# Altium footprint library Crystal Footprints.PcbLib: 5 footprints
Each footprint in its own frame and in the unit in brackets; x right, y up, seen from the top. Pads: shape width x height; smd on the part's side, far side on the other; paste and mask are expansions set on the pad; w line width, h text height; cw(c..) or ccw(c..) is an arc to the next point about the centre after c.
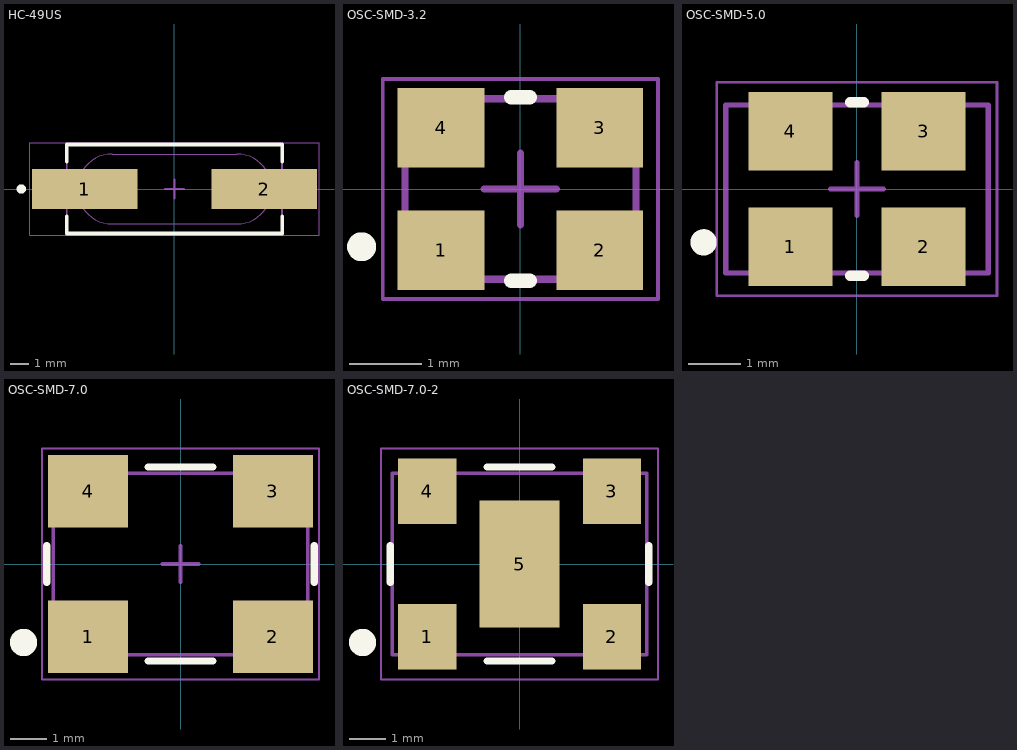
[diagram p0: the footprints below, top view; thin cyan lines are the x and y axes]

## HC-49US [mm] "SMD, 2-Leads, Body 11.4x4.7mm, Height 3.3mm"
height 3.3
pads (2):
  rect 5.6x2.1 smd: 1(-4.75,0) 2(4.75,0)
Top Overlay:
  circle w0.25: c-8.1,0 r0.125
  lines w0.2: -5.7,-1.45 -5.7,-2.35 5.7,-2.35 5.7,-1.45 ; -5.7,1.45 -5.7,2.35 5.7,2.35 5.7,1.45
Mechanical 13:
  lines w0.05: -3.3,-1.85 cw(c-3.3,0) -3.3,1.85 3.3,1.85 cw(c3.3,0) 3.3,-1.85 -3.3,-1.85
  lines w0.1: -5.7,-2.35 5.7,-2.35 5.7,2.35 -5.7,2.35 -5.7,-2.35
Mechanical 15:
  lines w0.05: -7.65,-2.45 -7.65,2.45 7.65,2.45 7.65,-2.45 -7.65,-2.45
  lines w0.1: -0.5,0 0.5,0 ; 0,-0.5 0,0.5
3D body: height 0.5, standoff 0, extent -5.699,-2.349 5.699,2.349
3D body: height 3.3, standoff 0.5, extent -5.151,-1.851 5.151,1.851

## OSC-SMD-3.2 [mm] "SMD, 4-Leads, Body 3.2x2.5mm, Pitch 2.1mm"
height 1.2
pads (4):
  rect 1.2x1.1 smd: 1(-1.1,-0.85) 2(1.1,-0.85) 3(1.1,0.85) 4(-1.1,0.85)
Top Overlay:
  circle w0.3: c-2.2,-0.8 r0.05
  lines w0.2: -0.127,-1.27 0.127,-1.27 ; -0.127,1.27 0.127,1.27
Mechanical 13:
  lines w0.1: -1.6,-1.25 -1.6,1.25 1.6,1.25 1.6,-1.25 -1.6,-1.25
Mechanical 15:
  lines w0.05: -1.905,-1.524 1.905,-1.524 1.905,1.524 -1.905,1.524 -1.905,-1.524
  lines w0.1: -0.5,0 0.5,0 ; 0,-0.5 0,0.5
3D body "ASE2.STEP": height 1.2, standoff 0, extent -1.6,-1.25 1.6,1.25

## OSC-SMD-5.0 [mm] "SMD, 4-Leads, Body 5x3.2mm"
height 1.1
pads (4):
  rect 1.6x1.5 smd: 1(-1.27,-1.1) 2(1.27,-1.1) 3(1.27,1.1) 4(-1.27,1.1)
Top Overlay:
  circle w0.25: c-2.921,-1.016 r0.125
  lines w0.2: -0.127,-1.651 0.127,-1.651 ; -0.127,1.651 0.127,1.651
Mechanical 13:
  lines w0.1: -2.5,-1.6 2.5,-1.6 2.5,1.6 -2.5,1.6 -2.5,-1.6
Mechanical 15:
  lines w0.05: -2.667,-2.032 -2.667,2.032 2.667,2.032 2.667,-2.032 -2.667,-2.032
  lines w0.1: -0.5,0 0.5,0 ; 0,-0.5 0,0.5
3D body "Oscillator ASF1.STEP": height 1.1, standoff 0, extent -2.5,-1.6 2.5,1.6

## OSC-SMD-7.0 [mm] "SMD, 4-Leads, Body 7x5mm"
height 1.1
pads (4):
  rect 2.2x2 smd: 1(-2.54,-2) 2(2.54,-2) 3(2.54,2) 4(-2.54,2)
Top Overlay:
  circle w0.5: c-4.318,-2.159 r0.125
  lines w0.2: -3.683,-0.508 -3.683,0.508 ; -0.889,-2.667 0.889,-2.667 ; -0.889,2.667 0.889,2.667 ; 3.683,-0.508 3.683,0.508
Mechanical 13:
  lines w0.1: -3.5,-2.5 -3.5,2.5 3.5,2.5 3.5,-2.5 -3.5,-2.5
Mechanical 15:
  lines w0.05: -3.81,-3.175 3.81,-3.175 3.81,3.175 -3.81,3.175 -3.81,-3.175
  lines w0.1: -0.5,0 0.5,0 ; 0,-0.5 0,0.5
3D body "ASV.STEP": height 1.81, standoff 0.01, extent -3.5,-2.54 3.5,2.54

## OSC-SMD-7.0-2 [mm] "SMD, 5-Leads, Body 7x5mm"
height 1.1
pads (5):
  rect 1.6x1.8 smd: 1(-2.54,-2) 2(2.54,-2) 3(2.54,2) 4(-2.54,2)
  rect 2.2x3.5 smd: 5(0,0)
Top Overlay:
  circle w0.5: c-4.318,-2.159 r0.125
  lines w0.2: -3.556,-0.508 -3.556,0.508 ; -0.889,-2.667 0.889,-2.667 ; -0.889,2.667 0.889,2.667 ; 3.556,-0.5 3.556,0.508
Mechanical 13:
  lines w0.1: -3.5,-2.5 3.5,-2.5 3.5,2.5 -3.5,2.5 -3.5,-2.5
Mechanical 15:
  lines w0.05: -3.81,-3.175 -3.81,3.175 3.81,3.175 3.81,-3.175 -3.81,-3.175
  lines w0.1: -0.5,0 0.5,0 ; 0,-0.5 0,0.5
3D body "ASV.STEP": height 1.81, standoff 0.01, extent -3.5,-2.54 3.5,2.54